# EAGLE library part 64900629522 (library Wuerth_Elektronik_eiCan_07_Mini_Power_Connectors)
WR-MPC4-4.20mm Male Dual Row Angled Header,6 pins
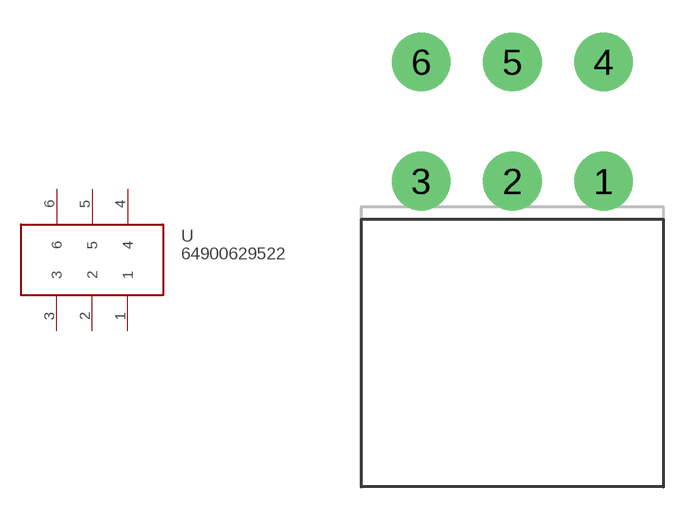
[diagram p0: symbol with the pads of 64900629522; footprint 64900629522]

Designator prefix -

## 64900629522  [64900629522]
1  1
2  2
3  3
4  4
5  5
6  6

## Footprint 64900629522 (pad centres in mm)
WR-MPC4-4.20mm Male Dual Row Angled Header,6 pins
drill 1.8 round: 1 2.115,-2.75; 2 -2.085,-2.75; 3 -6.285,-2.75; 4 2.115,2.75; 5 -2.085,2.75; 6 -6.285,2.75